# EAGLE library part VEML6030-GS15_VEML6030-GS15 (library explorator_breakout_pcb_40mm)
VEML6030 High Accuracy Ambient Light Sensor with I2C Interface: VEML6030 is a high accuracy ambient light digital 16-bit resolution sensor in a miniature transparent 2 mm x 2 mm package. It includes a high sensitive photodiode, a low noise amplifier, a 16-bit A/D converter and supports an easy to use I2C bus communication interface and additional interrupt feature. The ambient light result is as digital value available. Device Model created 15.06.2016 by Johannes Kolb - Vishay Semiconductor GmbH
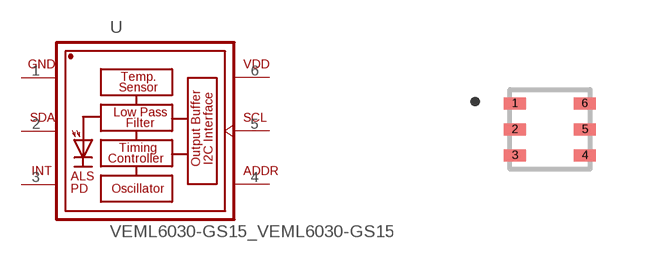
[diagram p1: symbol with the pads of VEML6030-GS15_VISHAY_VEML6030_2X2X0.87; footprint VEML6030-GS15_VISHAY_VEML6030_2X2X0.87]

Designator prefix U

## VEML6030-GS15_VEML6030-GS15 (AVAILABILITY: Unavailable; DESCRIPTION: Optical Sensor Ambient 550nm I²C 6-SMD, No Lead; MF: Vishay Semiconductor; MP: VEML6030-GS15; PACKAGE: SMD-6 Vishay; PRICE: None)  [VEML6030-GS15_VISHAY_VEML6030_2X2X0.87]
1  GND  pwr
2  SDA
3  INT  out
4  ADDR
5  SCL  in
6  VDD  pwr

## Footprint VEML6030-GS15_VISHAY_VEML6030_2X2X0.87 (pad centres in mm)
smd 0.55 x 0.3: 1 -0.875,0.65; 2 -0.875,0; 3 -0.875,-0.65; 4 0.875,-0.65; 5 0.875,0; 6 0.875,0.65